# EAGLE library part 4051 (library GMC-4 UBW Loader Library)
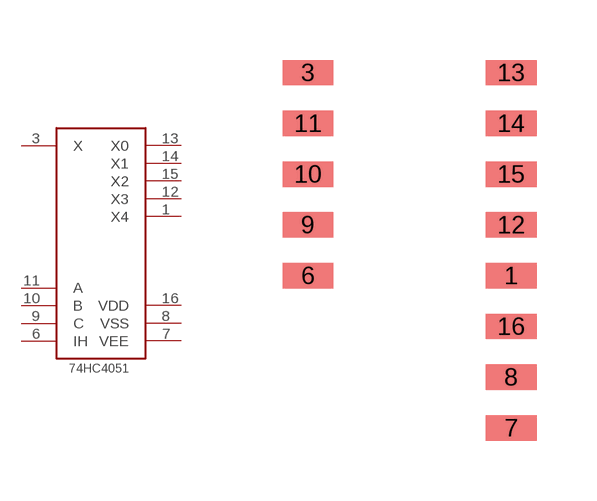
[diagram p2: symbol with the pads of 4051; footprint 4051]

Designator prefix -

## 4051  [4051]
1  X4
3  X
6  IH
7  VEE
8  VSS
9  C
10  B
11  A
12  X3
13  X0
14  X1
15  X2
16  VDD

## Footprint 4051 (pad centres in mm)
smd 1.27 x 0.635: 1 -3.81,-1.27; 3 -8.89,3.81; 6 -8.89,-1.27; 7 -3.81,-5.08; 8 -3.81,-3.81; 9 -8.89,0; 10 -8.89,1.27; 11 -8.89,2.54; 12 -3.81,0; 13 -3.81,3.81; 14 -3.81,2.54; 15 -3.81,1.27; 16 -3.81,-2.54